# EAGLE library part TAS5624A (library Texas Instruments)
150-W Stereo / 300-W Mono PurePath ™ HD Digital Input Class-D Power Stage
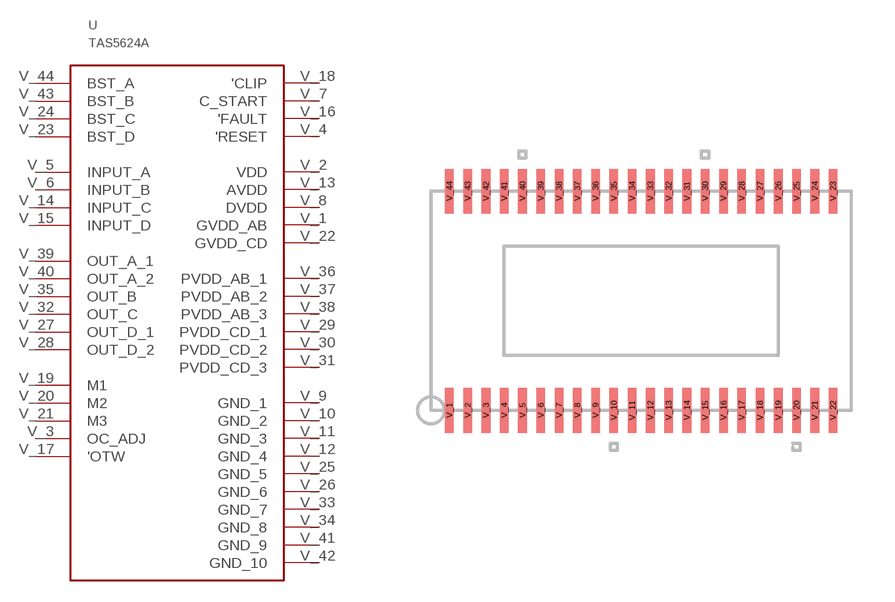
[diagram p26: symbol with the pads of DDV44; footprint DDV44]

Designator prefix U

## TAS5624A  [DDV44]
V_1  GVDD_AB  pwr
V_2  VDD  pwr
V_3  OC_ADJ  out
V_4  'RESET  in
V_5  INPUT_A  in
V_6  INPUT_B  in
V_7  C_START  out
V_8  DVDD  pwr
V_9  GND_1  pwr
V_10  GND_2  pwr
V_11  GND_3  pwr
V_12  GND_4  pwr
V_13  AVDD  pwr
V_14  INPUT_C  in
V_15  INPUT_D  in
V_16  'FAULT  out
V_17  'OTW  out
V_18  'CLIP  out
V_19  M1  in
V_20  M2  in
V_21  M3  in
V_22  GVDD_CD  pwr
V_23  BST_D  pwr
V_24  BST_C  pwr
V_25  GND_5  pwr
V_26  GND_6  pwr
V_27  OUT_D_1  out
V_28  OUT_D_2  out
V_29  PVDD_CD_1  pwr
V_30  PVDD_CD_2  pwr
V_31  PVDD_CD_3  pwr
V_32  OUT_C  out
V_33  GND_7  pwr
V_34  GND_8  pwr
V_35  OUT_B  out
V_36  PVDD_AB_1  pwr
V_37  PVDD_AB_2  pwr
V_38  PVDD_AB_3  pwr
V_39  OUT_A_1  out
V_40  OUT_A_2  out
V_41  GND_9  pwr
V_42  GND_10  pwr
V_43  BST_B  pwr
V_44  BST_A  pwr

## Footprint DDV44 (pad centres in mm)
smd 0.3 x 1.55: V_1 -6.35,-3.81; V_2 -5.715,-3.81; V_3 -5.08,-3.81; V_4 -4.445,-3.81; V_5 -3.81,-3.81; V_6 -3.175,-3.81; V_7 -2.54,-3.81; V_8 -1.905,-3.81; V_9 -1.27,-3.81; V_10 -0.635,-3.81; V_11 0,-3.81; V_12 0.635,-3.81; V_13 1.27,-3.81; V_14 1.905,-3.81; V_15 2.54,-3.81; V_16 3.175,-3.81; V_17 3.81,-3.81; V_18 4.445,-3.81; V_19 5.08,-3.81; V_20 5.715,-3.81; V_21 6.35,-3.81; V_22 6.985,-3.81; V_23 6.985,3.81; V_24 6.35,3.81; V_25 5.715,3.81; V_26 5.08,3.81; V_27 4.445,3.81; V_28 3.81,3.81; V_29 3.175,3.81; V_30 2.54,3.81; V_31 1.905,3.81; V_32 1.27,3.81; V_33 0.635,3.81; V_34 0,3.81; V_35 -0.635,3.81; V_36 -1.27,3.81; V_37 -1.905,3.81; V_38 -2.54,3.81; V_39 -3.175,3.81; V_40 -3.81,3.81; V_41 -4.445,3.81; V_42 -5.08,3.81; V_43 -5.715,3.81; V_44 -6.35,3.81